# EAGLE library part RFM12B_LESSPADS (library LowPowerLab)
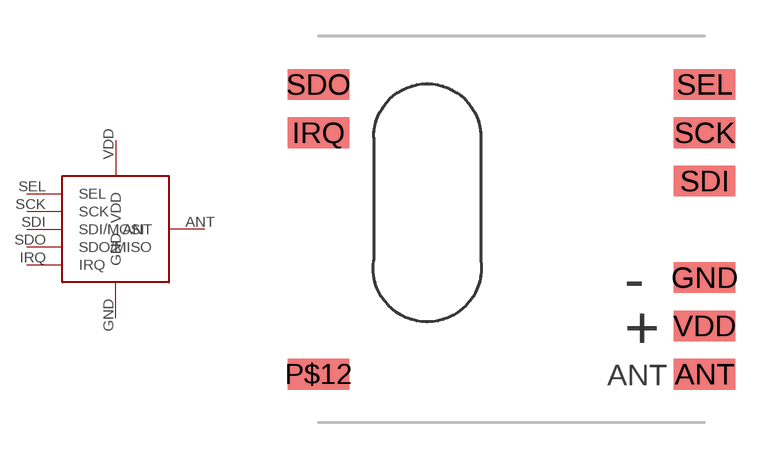
[diagram p7: symbol with the pads of RFM12B_LESSPADS; footprint RFM12B_LESSPADS]

Designator prefix -

## RFM12B_LESSPADSRFM12B_LESSPADS  [RFM12B_LESSPADS]
ANT  ANT
GND  GND
IRQ  IRQ
SCK  SCK
SDI  SDI/MOSI
SDO  SDO/MISO
SEL  SEL
VDD  VDD

## Footprint RFM12B_LESSPADS (pad centres in mm)
smd 2.54 x 1.27: ANT 7.365,-6; GND 7.365,-2; IRQ -8.635,4; P$12 -8.635,-6; SCK 7.365,4; SDI 7.365,2; SDO -8.635,6; SEL 7.365,6; VDD 7.365,-4